# Altium integrated library Amplifiers - OP Amps and Buffer Amps.IntLib: 41 symbols (part 2 of 2)
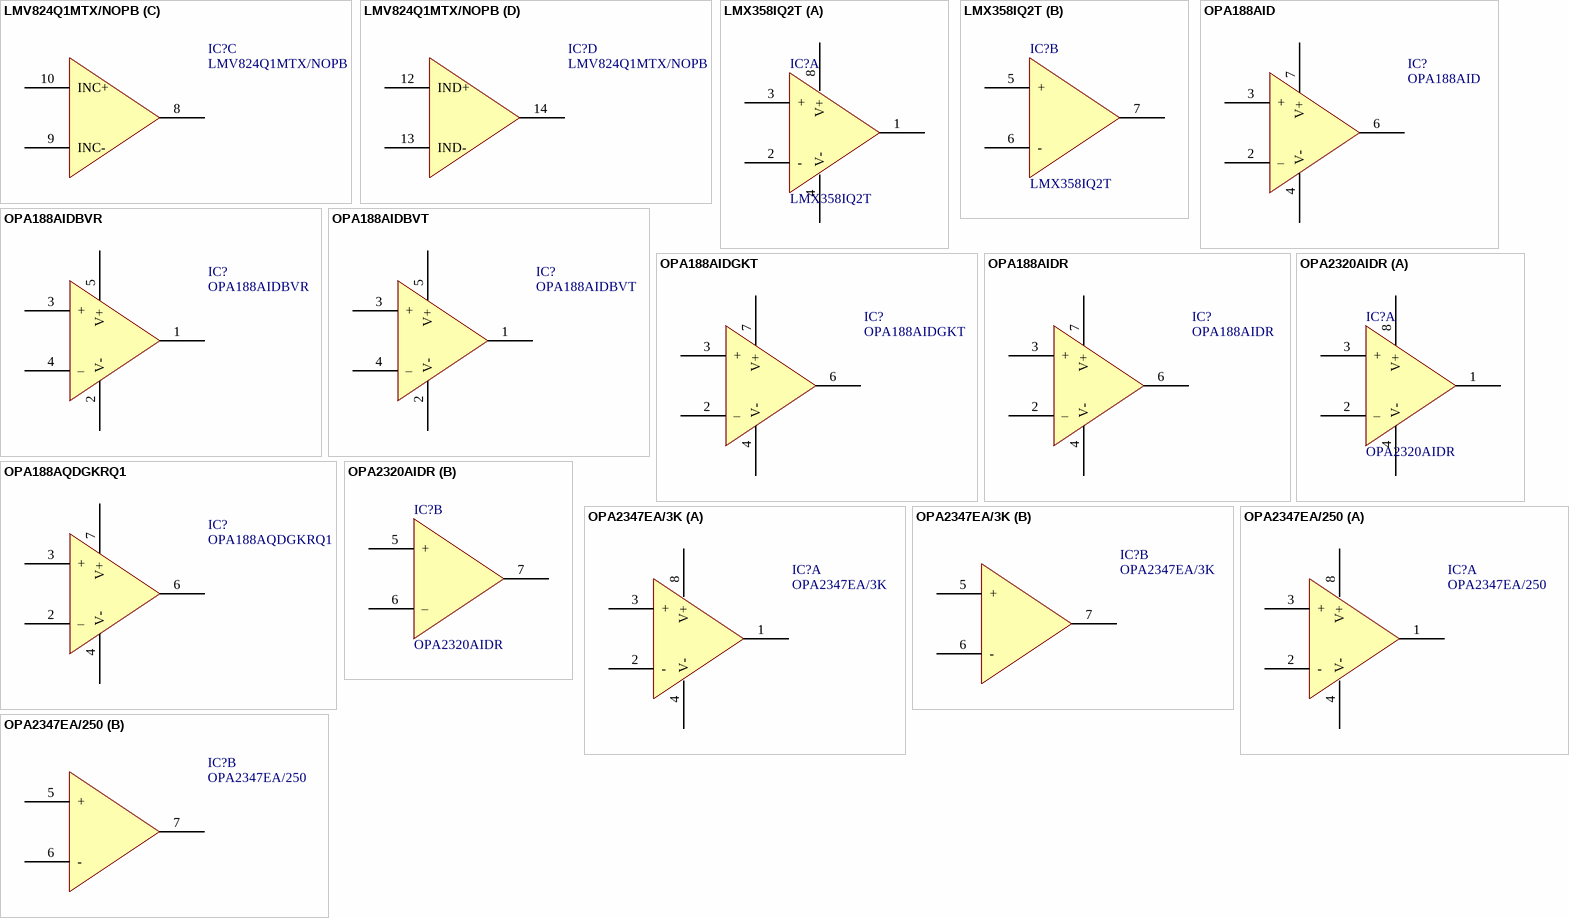
[diagram p3: symbols LMV824Q1MTX/NOPB to OPA2347EA/250]

## OPA2347EA/250
designator IC?
IC OPAMP GP 2 CIRCUIT SOT23-8; Manufacturer: Texas Instruments; Amplifier Type: General Purpose; Current - Input Bias: 0.5pA; Current - Output / Channel: 17mA; Current - Supply: 20µA; Gain Bandwidth Product: 350kHz; Number of Circuits: 2; Output Type: Rail-to-Rail; Slew Rate: 0.17V/µs; Voltage - Input Offset: 2mV; Voltage - Supply, Single/Dual (±): 2.3V ~ 5.5V, ±1.15V ~ 2.75V; Part Number: OPA2347EA/250; ComponentLink1Description: Datasheet; ComponentLink1URL: http://www.ti.com/general/docs/suppproductinfo.tsp?distId=10&gotoUrl=http%3A%2F%2Fwww.ti.com%2Flit%2Fgpn%2Fopa2347; ComponentLink2Description: DigiKey Link; ComponentLink2URL: http://digikey.com/product-detail/en/texas-instruments/OPA2347EA-250/296-44981-1-ND/362245; Device Package: SOT-23-8; LastUpdated: 4/2/2020 1:30:18 PM; Lifecycle Status: Active; Minimum Order: 1; Mounting Type: Surface Mount; Operating Temperature: -55°C ~ 125°C; Package / Case: SOT-23-8; Packaging: TapeAndReel; PartId: 27; Part Status: Active; Price: 0.75; Series: -; Supplier 1: DigiKey; Supplier Part Number 1: 296-44981-1-ND; Supplier Device Package: SOT-23-8
footprint TI SOT-23-8 DCN
part A pins: 1 OUTA, 2 -, 3 +, 4 V-, 8 V+
part B pins: 5 +, 6 -, 7 OUTB